# Altium schematic symbol library DAC8551.Schlib: 1 symbol
Pins are listed as number, name and electrical type; pins without a type are passive.

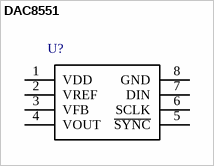
[diagram p0: symbol DAC8551]

## DAC8551
designator U?  (value not drawn)
DAC, Voltage output, 16-bit, SPI
pins: 1 VDD, 2 VREF, 3 VFB, 4 VOUT, 5 ~{SYNC}, 6 SCLK, 7 DIN, 8 GND